# EAGLE library part IRS20124SPBF (library International_Rectifier_By_element14_Batch_1)
HALF-BRIDGE DRIVER
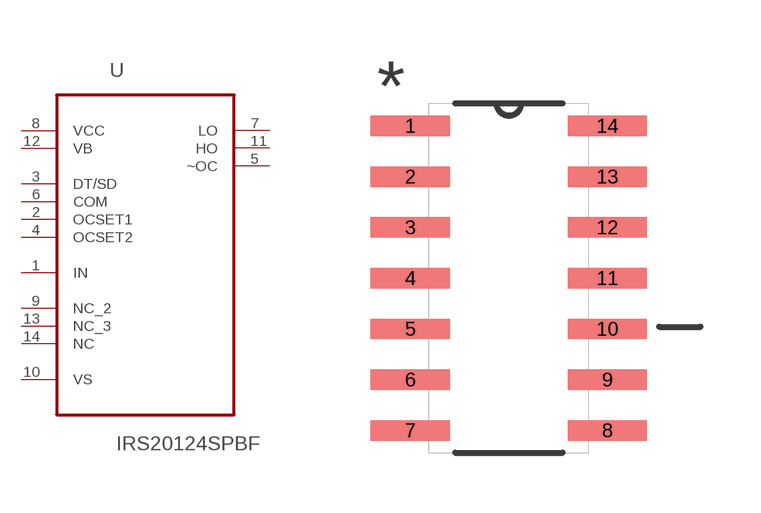
[diagram p90: symbol with the pads of SOIC127P600X175-14N; footprint SOIC127P600X175-14N]

Designator prefix U

## IRS20124SPBF (MPN: IRS20124SPBF; OC_FARNELL: 1080637; OC_NEWARK: 58K5831; PACKAGE: SOIC-14; SUPPLIER: International Rectifier)  [SOIC127P600X175-14N]
1  IN  in
2  OCSET1  in
3  DT/SD  in
4  OCSET2  in
5  ~OC  out
6  COM  pas
7  LO  out
8  VCC  pwr
9  NC_2  nc
10  VS  pas
11  HO  out
12  VB  pas
13  NC_3  nc
14  NC  nc

## Footprint SOIC127P600X175-14N (pad centres in mm)
smd 1.981 x 0.508: 1 -2.464,3.81; 2 -2.464,2.54; 3 -2.464,1.27; 4 -2.464,0; 5 -2.464,-1.27; 6 -2.464,-2.54; 7 -2.464,-3.81; 8 2.464,-3.81; 9 2.464,-2.54; 10 2.464,-1.27; 11 2.464,0; 12 2.464,1.27; 13 2.464,2.54; 14 2.464,3.81